# EAGLE library part HUB (library libliblib)
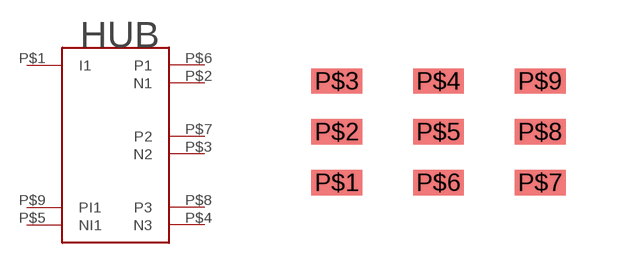
[diagram p2: symbol with the pads of HUB; footprint HUB]

Designator prefix -

## HUB  [HUB]
P$1  I1
P$2  N1
P$3  N2
P$4  N3
P$5  NI1
P$6  P1
P$7  P2
P$8  P3
P$9  PI1

## Footprint HUB (pad centres in mm)
smd 1.27 x 0.635: P$1 0,0; P$2 0,1.27; P$3 0,2.54; P$4 2.54,2.54; P$5 2.54,1.27; P$6 2.54,0; P$7 5.08,0; P$8 5.08,1.27; P$9 5.08,2.54